# Altium integrated library TI Data Converters Analog to Digital Converter.IntLib: 2198 symbols (part 154 of 164)
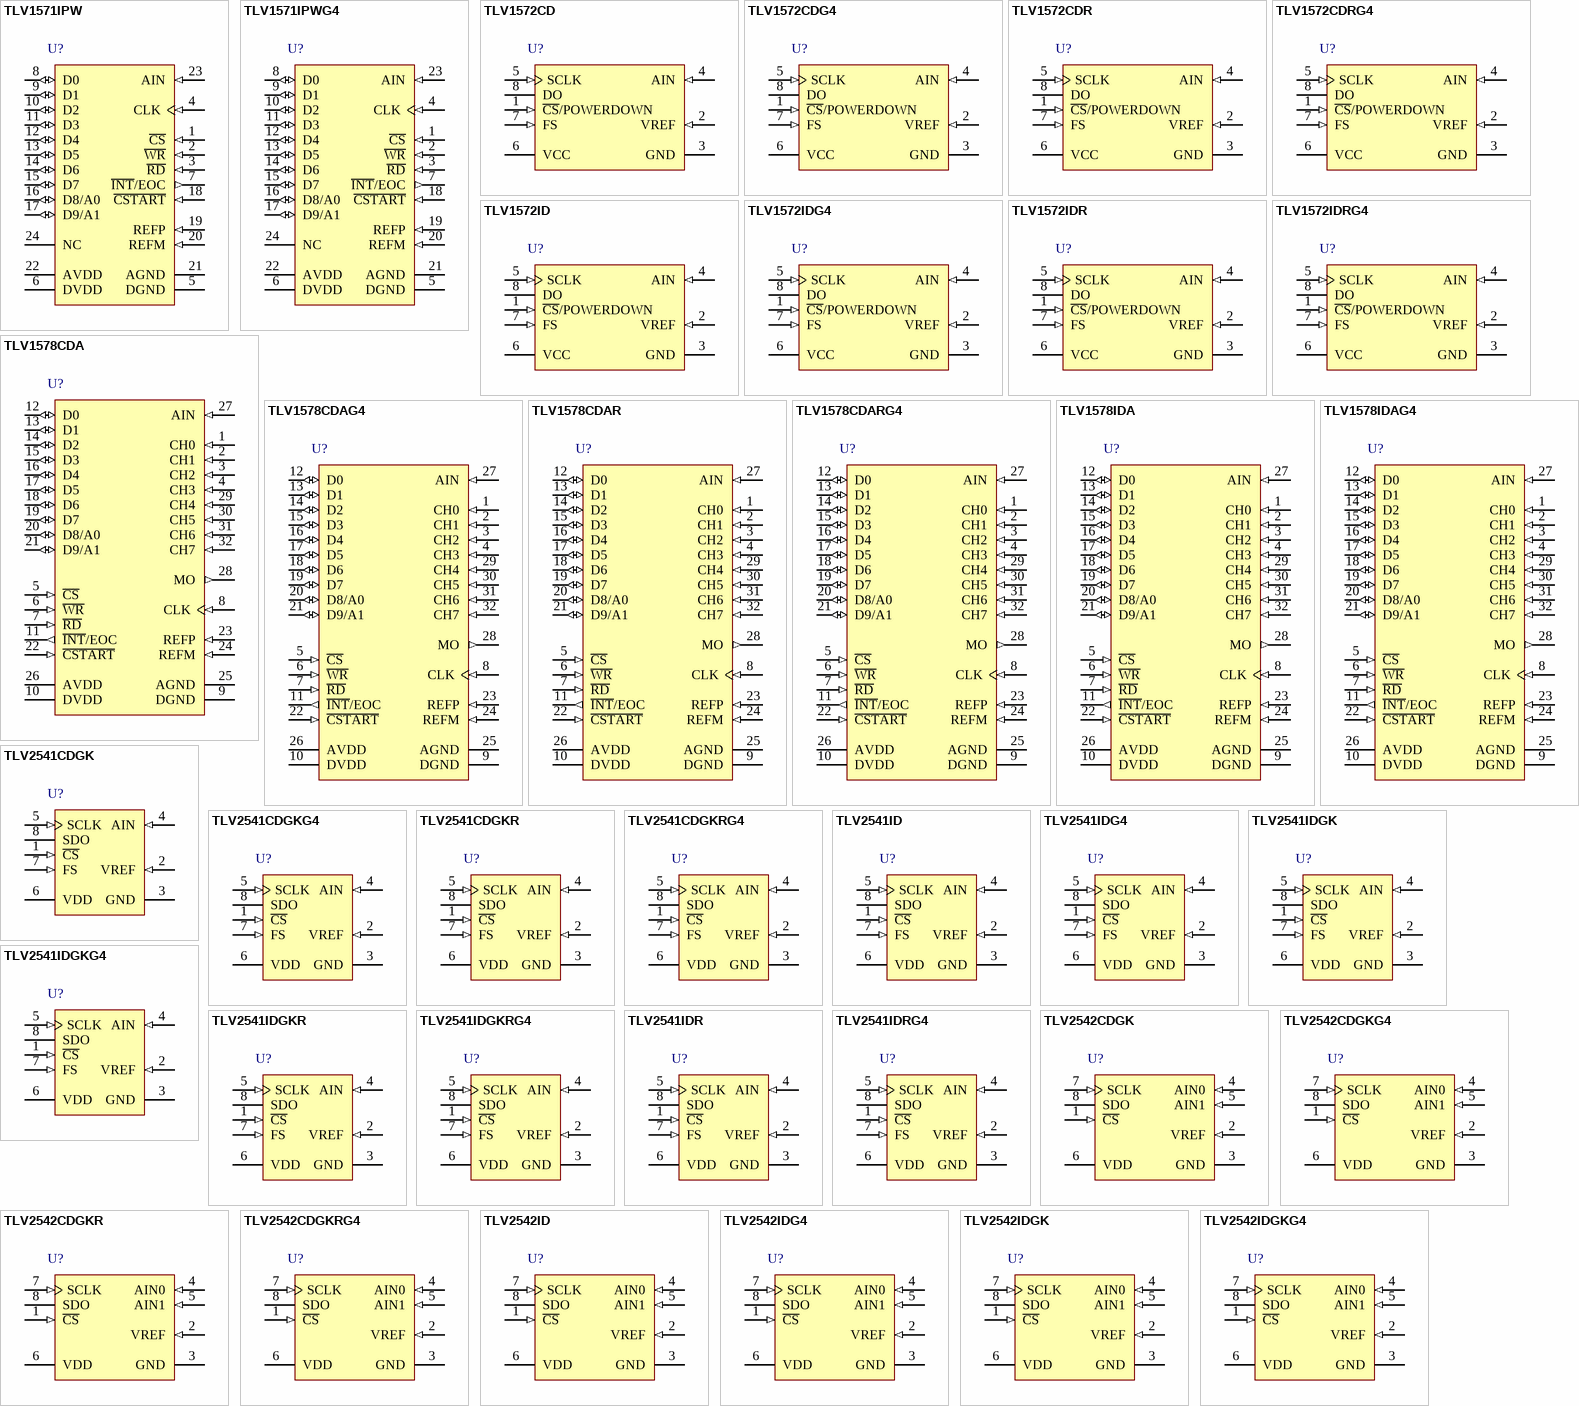
[diagram p279: symbols TLV1571IPW to TLV2542IDGKG4]

## TLV1578CDAG4
designator U?
10-Bit 1.25 MSPS ADC 8-Channel, DSP / SPI, Hardware Configurable, Low Power, 0 to 70 degC, 32-pin SOP (DA32), Green (RoHS & no Sb/Br); Manufacturer: Texas Instruments; PartNumber: TLV1578CDAG4; # Input Channels: 8; Analog Voltage AV/DD(Max)(V): 5.5; Analog Voltage AV/DD(Min)(V): 2.7; Architecture: SAR; ENOB(Bits): 9.3; INL(Max)(+/-LSB): 1; Interface: Parallel CMOS; Resolution(Bits): 10; Sample Rate (max)(SPS): 1.25M; SFDR(dB): 63; SINAD(dB): 60; SubFamily: Precision ADC (<=10MSPS); DatasheetVersion: SLAS170D; PackageVersion: 4040066/F, 01/2009; PackageReference: DA32; PackageDescription: 32-Pin Plastic Small Outline, Body 11 x 6.1 mm, Pitch 0.65 mm; Supplier 1: Digi-Key; Supplier Part Number 1: 296-25289-ND; Digital Supply(Max)(V): 5.5; Digital Supply(Min)(V): 2.7; Eco-Plan: Green (RoHS & no Sb/Br); SNR(dB): 60; Mounting Technology: Surface Mount; Code_JEDEC: MO-225; ComponentLink1Description: Manufacturer URL; ComponentLink1URL: http://www.ti.com/; ComponentLink2Description: Datasheet; ComponentLink2URL: http://www.ti.com/general/docs/lit/getliterature.tsp?genericPartNumber=TLV1578&fileType=pdf; ComponentLink3Description: Package Specification; ComponentLink3URL: http://www.ti.com/lit/ml/mtss002e/mtss002e.pdf
footprint TI-DA32_N (SOP, 32-Leads, Body 11x6.1mm, Pitch 0.65mm, IPC Medium Density)
footprint TI-DA32_L (SOP, 32-Leads, Body 11x6.1mm, Pitch 0.65mm, IPC High Density)
footprint TI-DA32_M (SOP, 32-Leads, Body 11x6.1mm, Pitch 0.65mm, IPC Low Density)
pins: 1 CH0 (in) "Analog input channels", 2 CH1 (in) "Analog input channels", 3 CH2 (in) "Analog input channels", 4 CH3 (in) "Analog input channels", 5 ~{CS} (in) "Chip select. A logic low on C\S\ enables the TLV1571/TLV1578", 6 ~{WR} (in) "Write data. A rising edge on the W\R\ latches in configuration data when C\S\ is low. When using software conversion start, a rising edge on W\R\ also initiates an internal sampling start pulse. When W\R\ is tied to ground, (See Datasheet)", 7 ~{RD} (in) "Read data. A falling edge on R\D\ enables a read operation on the data bus when C\S\ is low.", 8 CLK (in) "External clock input", 9 DGND (power) "Digital ground", 10 DVDD (power) "Digital supply voltage, 2.7 V to 5.5 V", 11 ~{INT}/EOC (out) "End-of-conversion/interrupt", 12 D0 (io) "Bidirectional 3-state data bus", 13 D1 (io) "Bidirectional 3-state data bus", 14 D2 (io) "Bidirectional 3-state data bus", 15 D3 (io) "Bidirectional 3-state data bus", 16 D4 (io) "Bidirectional 3-state data bus", 17 D5 (io) "Bidirectional 3-state data bus", 18 D6 (io) "Bidirectional 3-state data bus", 19 D7 (io) "Bidirectional 3-state data bus", 20 D8/A0 (io) "Bidirectional 3-state data bus. D8/A0 along with D9/A1 is used as address lines to access CR0 and CR1 for initialization", 21 D9/A1 (io) "Bidirectional 3-state data bus. D9/A1 along with D8/A0 is used as address lines to access CR0 and CR1 for initialization.", 22 ~{CSTART} (in) "Hardware sample and conversion start input. The falling edge of C\S\T\A\R\T\ starts sampling and the rising edge of C\S\T\A\R\T\ starts conversion", 23 REFP (in) "Upper reference voltage (nominally AVDD). The maximum input voltage range is determined by the difference between the voltage applied to REFP and REFM.", 24 REFM (in) "Lower reference voltage (nominally ground). REFM must be supplied or REFM pin must be grounded.", 25 AGND (power) "Analog ground", 26 AVDD (power) "Analog supply voltage, 2.7 V to 5.5 V", 27 AIN (in) "ADC analog input (used as single analog input channel for TLV1571)", 28 MO (out) "On-chip MUX analog output", 29 CH4 (in) "Analog input channels", 30 CH5 (in) "Analog input channels", 31 CH6 (in) "Analog input channels", 32 CH7 (in) "Analog input channels"

## TLV1578CDAR
designator U?
10-Bit 1.25 MSPS ADC 8-Channel, DSP / SPI, Hardware Configurable, Low Power, 0 to 70 degC, 32-pin SOP (DA32), Green (RoHS & no Sb/Br); Manufacturer: Texas Instruments; PartNumber: TLV1578CDAR; # Input Channels: 8; Analog Voltage AV/DD(Max)(V): 5.5; Analog Voltage AV/DD(Min)(V): 2.7; Architecture: SAR; ENOB(Bits): 9.3; INL(Max)(+/-LSB): 1; Interface: Parallel CMOS; Resolution(Bits): 10; Sample Rate (max)(SPS): 1.25M; SFDR(dB): 63; SINAD(dB): 60; SubFamily: Precision ADC (<=10MSPS); DatasheetVersion: SLAS170D; PackageVersion: 4040066/F, 01/2009; PackageReference: DA32; PackageDescription: 32-Pin Plastic Small Outline, Body 11 x 6.1 mm, Pitch 0.65 mm; Supplier 1: Digi-Key; Supplier Part Number 1: AFE0064IPBKR-ND; Digital Supply(Max)(V): 5.5; Digital Supply(Min)(V): 2.7; Eco-Plan: Green (RoHS & no Sb/Br); SNR(dB): 60; Mounting Technology: Surface Mount; Code_JEDEC: MO-225; ComponentLink1Description: Manufacturer URL; ComponentLink1URL: http://www.ti.com/; ComponentLink2Description: Datasheet; ComponentLink2URL: http://www.ti.com/general/docs/lit/getliterature.tsp?genericPartNumber=TLV1578&fileType=pdf; ComponentLink3Description: Package Specification; ComponentLink3URL: http://www.ti.com/lit/ml/mtss002e/mtss002e.pdf
footprint TI-DA32_N (SOP, 32-Leads, Body 11x6.1mm, Pitch 0.65mm, IPC Medium Density)
footprint TI-DA32_L (SOP, 32-Leads, Body 11x6.1mm, Pitch 0.65mm, IPC High Density)
footprint TI-DA32_M (SOP, 32-Leads, Body 11x6.1mm, Pitch 0.65mm, IPC Low Density)
pins: 1 CH0 (in) "Analog input channels", 2 CH1 (in) "Analog input channels", 3 CH2 (in) "Analog input channels", 4 CH3 (in) "Analog input channels", 5 ~{CS} (in) "Chip select. A logic low on C\S\ enables the TLV1571/TLV1578", 6 ~{WR} (in) "Write data. A rising edge on the W\R\ latches in configuration data when C\S\ is low. When using software conversion start, a rising edge on W\R\ also initiates an internal sampling start pulse. When W\R\ is tied to ground, (See Datasheet)", 7 ~{RD} (in) "Read data. A falling edge on R\D\ enables a read operation on the data bus when C\S\ is low.", 8 CLK (in) "External clock input", 9 DGND (power) "Digital ground", 10 DVDD (power) "Digital supply voltage, 2.7 V to 5.5 V", 11 ~{INT}/EOC (out) "End-of-conversion/interrupt", 12 D0 (io) "Bidirectional 3-state data bus", 13 D1 (io) "Bidirectional 3-state data bus", 14 D2 (io) "Bidirectional 3-state data bus", 15 D3 (io) "Bidirectional 3-state data bus", 16 D4 (io) "Bidirectional 3-state data bus", 17 D5 (io) "Bidirectional 3-state data bus", 18 D6 (io) "Bidirectional 3-state data bus", 19 D7 (io) "Bidirectional 3-state data bus", 20 D8/A0 (io) "Bidirectional 3-state data bus. D8/A0 along with D9/A1 is used as address lines to access CR0 and CR1 for initialization", 21 D9/A1 (io) "Bidirectional 3-state data bus. D9/A1 along with D8/A0 is used as address lines to access CR0 and CR1 for initialization.", 22 ~{CSTART} (in) "Hardware sample and conversion start input. The falling edge of C\S\T\A\R\T\ starts sampling and the rising edge of C\S\T\A\R\T\ starts conversion", 23 REFP (in) "Upper reference voltage (nominally AVDD). The maximum input voltage range is determined by the difference between the voltage applied to REFP and REFM.", 24 REFM (in) "Lower reference voltage (nominally ground). REFM must be supplied or REFM pin must be grounded.", 25 AGND (power) "Analog ground", 26 AVDD (power) "Analog supply voltage, 2.7 V to 5.5 V", 27 AIN (in) "ADC analog input (used as single analog input channel for TLV1571)", 28 MO (out) "On-chip MUX analog output", 29 CH4 (in) "Analog input channels", 30 CH5 (in) "Analog input channels", 31 CH6 (in) "Analog input channels", 32 CH7 (in) "Analog input channels"

## TLV1578CDARG4
designator U?
10-Bit 1.25 MSPS ADC 8-Channel, DSP / SPI, Hardware Configurable, Low Power, 0 to 70 degC, 32-pin SOP (DA32), Green (RoHS & no Sb/Br); Manufacturer: Texas Instruments; PartNumber: TLV1578CDARG4; # Input Channels: 8; Analog Voltage AV/DD(Max)(V): 5.5; Analog Voltage AV/DD(Min)(V): 2.7; Architecture: SAR; ENOB(Bits): 9.3; INL(Max)(+/-LSB): 1; Interface: Parallel CMOS; Resolution(Bits): 10; Sample Rate (max)(SPS): 1.25M; SFDR(dB): 63; SINAD(dB): 60; SubFamily: Precision ADC (<=10MSPS); DatasheetVersion: SLAS170D; PackageVersion: 4040066/F, 01/2009; PackageReference: DA32; PackageDescription: 32-Pin Plastic Small Outline, Body 11 x 6.1 mm, Pitch 0.65 mm; Supplier 1: Digi-Key; Supplier Part Number 1: ADS1015IDGSR-ND; Digital Supply(Max)(V): 5.5; Digital Supply(Min)(V): 2.7; Eco-Plan: Green (RoHS & no Sb/Br); SNR(dB): 60; Mounting Technology: Surface Mount; Code_JEDEC: MO-225; ComponentLink1Description: Manufacturer URL; ComponentLink1URL: http://www.ti.com/; ComponentLink2Description: Datasheet; ComponentLink2URL: http://www.ti.com/general/docs/lit/getliterature.tsp?genericPartNumber=TLV1578&fileType=pdf; ComponentLink3Description: Package Specification; ComponentLink3URL: http://www.ti.com/lit/ml/mtss002e/mtss002e.pdf
footprint TI-DA32_N (SOP, 32-Leads, Body 11x6.1mm, Pitch 0.65mm, IPC Medium Density)
footprint TI-DA32_L (SOP, 32-Leads, Body 11x6.1mm, Pitch 0.65mm, IPC High Density)
footprint TI-DA32_M (SOP, 32-Leads, Body 11x6.1mm, Pitch 0.65mm, IPC Low Density)
pins: 1 CH0 (in) "Analog input channels", 2 CH1 (in) "Analog input channels", 3 CH2 (in) "Analog input channels", 4 CH3 (in) "Analog input channels", 5 ~{CS} (in) "Chip select. A logic low on C\S\ enables the TLV1571/TLV1578", 6 ~{WR} (in) "Write data. A rising edge on the W\R\ latches in configuration data when C\S\ is low. When using software conversion start, a rising edge on W\R\ also initiates an internal sampling start pulse. When W\R\ is tied to ground, (See Datasheet)", 7 ~{RD} (in) "Read data. A falling edge on R\D\ enables a read operation on the data bus when C\S\ is low.", 8 CLK (in) "External clock input", 9 DGND (power) "Digital ground", 10 DVDD (power) "Digital supply voltage, 2.7 V to 5.5 V", 11 ~{INT}/EOC (out) "End-of-conversion/interrupt", 12 D0 (io) "Bidirectional 3-state data bus", 13 D1 (io) "Bidirectional 3-state data bus", 14 D2 (io) "Bidirectional 3-state data bus", 15 D3 (io) "Bidirectional 3-state data bus", 16 D4 (io) "Bidirectional 3-state data bus", 17 D5 (io) "Bidirectional 3-state data bus", 18 D6 (io) "Bidirectional 3-state data bus", 19 D7 (io) "Bidirectional 3-state data bus", 20 D8/A0 (io) "Bidirectional 3-state data bus. D8/A0 along with D9/A1 is used as address lines to access CR0 and CR1 for initialization", 21 D9/A1 (io) "Bidirectional 3-state data bus. D9/A1 along with D8/A0 is used as address lines to access CR0 and CR1 for initialization.", 22 ~{CSTART} (in) "Hardware sample and conversion start input. The falling edge of C\S\T\A\R\T\ starts sampling and the rising edge of C\S\T\A\R\T\ starts conversion", 23 REFP (in) "Upper reference voltage (nominally AVDD). The maximum input voltage range is determined by the difference between the voltage applied to REFP and REFM.", 24 REFM (in) "Lower reference voltage (nominally ground). REFM must be supplied or REFM pin must be grounded.", 25 AGND (power) "Analog ground", 26 AVDD (power) "Analog supply voltage, 2.7 V to 5.5 V", 27 AIN (in) "ADC analog input (used as single analog input channel for TLV1571)", 28 MO (out) "On-chip MUX analog output", 29 CH4 (in) "Analog input channels", 30 CH5 (in) "Analog input channels", 31 CH6 (in) "Analog input channels", 32 CH7 (in) "Analog input channels"

## TLV1578IDA
designator U?
10-Bit 1.25 MSPS ADC 8-Channel, DSP / SPI, Hardware Configurable, Low Power, -40 to 85 degC, 32-pin SOP (DA32), Green (RoHS & no Sb/Br); Manufacturer: Texas Instruments; PartNumber: TLV1578IDA; # Input Channels: 8; Analog Voltage AV/DD(Max)(V): 5.5; Analog Voltage AV/DD(Min)(V): 2.7; Architecture: SAR; ENOB(Bits): 9.3; INL(Max)(+/-LSB): 1; Interface: Parallel CMOS; Resolution(Bits): 10; Sample Rate (max)(SPS): 1.25M; SFDR(dB): 63; SINAD(dB): 60; SubFamily: Precision ADC (<=10MSPS); DatasheetVersion: SLAS170D; PackageVersion: 4040066/F, 01/2009; PackageReference: DA32; PackageDescription: 32-Pin Plastic Small Outline, Body 11 x 6.1 mm, Pitch 0.65 mm; Supplier 1: Digi-Key; Supplier Part Number 1: 296-25227-2-ND; Digital Supply(Max)(V): 5.5; Digital Supply(Min)(V): 2.7; Eco-Plan: Green (RoHS & no Sb/Br); SNR(dB): 60; Mounting Technology: Surface Mount; Code_JEDEC: MO-225; ComponentLink1Description: Manufacturer URL; ComponentLink1URL: http://www.ti.com/; ComponentLink2Description: Datasheet; ComponentLink2URL: http://www.ti.com/general/docs/lit/getliterature.tsp?genericPartNumber=TLV1578&fileType=pdf; ComponentLink3Description: Package Specification; ComponentLink3URL: http://www.ti.com/lit/ml/mtss002e/mtss002e.pdf
footprint TI-DA32_N (SOP, 32-Leads, Body 11x6.1mm, Pitch 0.65mm, IPC Medium Density)
footprint TI-DA32_L (SOP, 32-Leads, Body 11x6.1mm, Pitch 0.65mm, IPC High Density)
footprint TI-DA32_M (SOP, 32-Leads, Body 11x6.1mm, Pitch 0.65mm, IPC Low Density)
pins: 1 CH0 (in) "Analog input channels", 2 CH1 (in) "Analog input channels", 3 CH2 (in) "Analog input channels", 4 CH3 (in) "Analog input channels", 5 ~{CS} (in) "Chip select. A logic low on C\S\ enables the TLV1571/TLV1578", 6 ~{WR} (in) "Write data. A rising edge on the W\R\ latches in configuration data when C\S\ is low. When using software conversion start, a rising edge on W\R\ also initiates an internal sampling start pulse. When W\R\ is tied to ground, (See Datasheet)", 7 ~{RD} (in) "Read data. A falling edge on R\D\ enables a read operation on the data bus when C\S\ is low.", 8 CLK (in) "External clock input", 9 DGND (power) "Digital ground", 10 DVDD (power) "Digital supply voltage, 2.7 V to 5.5 V", 11 ~{INT}/EOC (out) "End-of-conversion/interrupt", 12 D0 (io) "Bidirectional 3-state data bus", 13 D1 (io) "Bidirectional 3-state data bus", 14 D2 (io) "Bidirectional 3-state data bus", 15 D3 (io) "Bidirectional 3-state data bus", 16 D4 (io) "Bidirectional 3-state data bus", 17 D5 (io) "Bidirectional 3-state data bus", 18 D6 (io) "Bidirectional 3-state data bus", 19 D7 (io) "Bidirectional 3-state data bus", 20 D8/A0 (io) "Bidirectional 3-state data bus. D8/A0 along with D9/A1 is used as address lines to access CR0 and CR1 for initialization", 21 D9/A1 (io) "Bidirectional 3-state data bus. D9/A1 along with D8/A0 is used as address lines to access CR0 and CR1 for initialization.", 22 ~{CSTART} (in) "Hardware sample and conversion start input. The falling edge of C\S\T\A\R\T\ starts sampling and the rising edge of C\S\T\A\R\T\ starts conversion", 23 REFP (in) "Upper reference voltage (nominally AVDD). The maximum input voltage range is determined by the difference between the voltage applied to REFP and REFM.", 24 REFM (in) "Lower reference voltage (nominally ground). REFM must be supplied or REFM pin must be grounded.", 25 AGND (power) "Analog ground", 26 AVDD (power) "Analog supply voltage, 2.7 V to 5.5 V", 27 AIN (in) "ADC analog input (used as single analog input channel for TLV1571)", 28 MO (out) "On-chip MUX analog output", 29 CH4 (in) "Analog input channels", 30 CH5 (in) "Analog input channels", 31 CH6 (in) "Analog input channels", 32 CH7 (in) "Analog input channels"

## TLV1578IDAG4
designator U?
10-Bit 1.25 MSPS ADC 8-Channel, DSP / SPI, Hardware Configurable, Low Power, -40 to 85 degC, 32-pin SOP (DA32), Green (RoHS & no Sb/Br); Manufacturer: Texas Instruments; PartNumber: TLV1578IDAG4; # Input Channels: 8; Analog Voltage AV/DD(Max)(V): 5.5; Analog Voltage AV/DD(Min)(V): 2.7; Architecture: SAR; ENOB(Bits): 9.3; INL(Max)(+/-LSB): 1; Interface: Parallel CMOS; Resolution(Bits): 10; Sample Rate (max)(SPS): 1.25M; SFDR(dB): 63; SINAD(dB): 60; SubFamily: Precision ADC (<=10MSPS); DatasheetVersion: SLAS170D; PackageVersion: 4040066/F, 01/2009; PackageReference: DA32; PackageDescription: 32-Pin Plastic Small Outline, Body 11 x 6.1 mm, Pitch 0.65 mm; Supplier 1: Digi-Key; Supplier Part Number 1: ADS1015IRUGR-ND; Digital Supply(Max)(V): 5.5; Digital Supply(Min)(V): 2.7; Eco-Plan: Green (RoHS & no Sb/Br); SNR(dB): 60; Mounting Technology: Surface Mount; Code_JEDEC: MO-225; ComponentLink1Description: Manufacturer URL; ComponentLink1URL: http://www.ti.com/; ComponentLink2Description: Datasheet; ComponentLink2URL: http://www.ti.com/general/docs/lit/getliterature.tsp?genericPartNumber=TLV1578&fileType=pdf; ComponentLink3Description: Package Specification; ComponentLink3URL: http://www.ti.com/lit/ml/mtss002e/mtss002e.pdf
footprint TI-DA32_N (SOP, 32-Leads, Body 11x6.1mm, Pitch 0.65mm, IPC Medium Density)
footprint TI-DA32_L (SOP, 32-Leads, Body 11x6.1mm, Pitch 0.65mm, IPC High Density)
footprint TI-DA32_M (SOP, 32-Leads, Body 11x6.1mm, Pitch 0.65mm, IPC Low Density)
pins: 1 CH0 (in) "Analog input channels", 2 CH1 (in) "Analog input channels", 3 CH2 (in) "Analog input channels", 4 CH3 (in) "Analog input channels", 5 ~{CS} (in) "Chip select. A logic low on C\S\ enables the TLV1571/TLV1578", 6 ~{WR} (in) "Write data. A rising edge on the W\R\ latches in configuration data when C\S\ is low. When using software conversion start, a rising edge on W\R\ also initiates an internal sampling start pulse. When W\R\ is tied to ground, (See Datasheet)", 7 ~{RD} (in) "Read data. A falling edge on R\D\ enables a read operation on the data bus when C\S\ is low.", 8 CLK (in) "External clock input", 9 DGND (power) "Digital ground", 10 DVDD (power) "Digital supply voltage, 2.7 V to 5.5 V", 11 ~{INT}/EOC (out) "End-of-conversion/interrupt", 12 D0 (io) "Bidirectional 3-state data bus", 13 D1 (io) "Bidirectional 3-state data bus", 14 D2 (io) "Bidirectional 3-state data bus", 15 D3 (io) "Bidirectional 3-state data bus", 16 D4 (io) "Bidirectional 3-state data bus", 17 D5 (io) "Bidirectional 3-state data bus", 18 D6 (io) "Bidirectional 3-state data bus", 19 D7 (io) "Bidirectional 3-state data bus", 20 D8/A0 (io) "Bidirectional 3-state data bus. D8/A0 along with D9/A1 is used as address lines to access CR0 and CR1 for initialization", 21 D9/A1 (io) "Bidirectional 3-state data bus. D9/A1 along with D8/A0 is used as address lines to access CR0 and CR1 for initialization.", 22 ~{CSTART} (in) "Hardware sample and conversion start input. The falling edge of C\S\T\A\R\T\ starts sampling and the rising edge of C\S\T\A\R\T\ starts conversion", 23 REFP (in) "Upper reference voltage (nominally AVDD). The maximum input voltage range is determined by the difference between the voltage applied to REFP and REFM.", 24 REFM (in) "Lower reference voltage (nominally ground). REFM must be supplied or REFM pin must be grounded.", 25 AGND (power) "Analog ground", 26 AVDD (power) "Analog supply voltage, 2.7 V to 5.5 V", 27 AIN (in) "ADC analog input (used as single analog input channel for TLV1571)", 28 MO (out) "On-chip MUX analog output", 29 CH4 (in) "Analog input channels", 30 CH5 (in) "Analog input channels", 31 CH6 (in) "Analog input channels", 32 CH7 (in) "Analog input channels"

## TLV2541CDGK
designator U?
12-Bit, 200 kSPS ADC, Serial Out, TMS320 Compatible (up to 10 MHz), Single Channel, 0 to 70 degC, 8-pin SOP (DGK8), Green (RoHS & no Sb/Br); Manufacturer: Texas Instruments; PartNumber: TLV2541CDGK; # Input Channels: 1; Analog Voltage AV/DD(Max)(V): 5.5; Analog Voltage AV/DD(Min)(V): 2.7; Architecture: SAR; ENOB(Bits): 11.8; Interface: Serial SPI; Resolution(Bits): 12; Sample Rate (max)(SPS): 200k; SFDR(dB): 84; SINAD(dB): 72; SubFamily: Precision ADC (<=10MSPS); DatasheetVersion: SLAS245E; PackageVersion: 4073329/E, 05/2006; PackageReference: DGK8; PackageDescription: 8-Pin Thin Small Outline, Body 3 x 3 mm, Pitch 0.65 mm; Supplier 1: Digi-Key; Supplier Part Number 1: 296-25172-2-ND; Digital Supply(Max)(V): 5.5; Digital Supply(Min)(V): 2.7; Eco-Plan: Green (RoHS & no Sb/Br); INL(Max)(+/-LSB): 1; Mounting Technology: Surface Mount; Code_JEDEC: MO-187; ComponentLink1Description: Manufacturer URL; ComponentLink1URL: http://www.ti.com/; ComponentLink2Description: Datasheet; ComponentLink2URL: http://www.ti.com/general/docs/lit/getliterature.tsp?genericPartNumber=TLV2541&fileType=pdf; ComponentLink3Description: Package Specification; ComponentLink3URL: http://www.ti.com/litv/pdf/mpds028d
footprint TI-DGK8_N (SOP, 8-Leads, Body 3x3mm, Pitch 0.65mm, IPC Medium Density)
footprint TI-DGK8_L (SOP, 8-Leads, Body 3x3mm, Pitch 0.65mm, IPC High Density)
footprint TI-DGK8_M (SOP, 8-Leads, Body 3x3mm, Pitch 0.65mm, IPC Low Density)
pins: 1 ~{CS} (in) "Chip select. A high-to-low transition on the C\S\ input removes SDO from 3-state within a maximum setup time. C\S\ can be used as the FS pin when a dedicated DSP serial port is used.", 2 VREF (in) "External reference input", 3 GND (power) "Ground return for the internal circuitry. Unless otherwise noted, all voltage measurements are with respect to GND.", 4 AIN (in) "Analog input channel", 5 SCLK (in) "Output serial clock. This terminal receives the serial SCLK from the host processor.", 6 VDD (power) "Positive supply voltage", 7 FS (in) "DSP frame sync input. Indication of the start of a serial data frame. Tie this terminal to VDD if not used.", 8 SDO (hiz) "The 3-state serial output for the A/D conversion result. SDO is kept in the high-impedance state until C\S\ falling edge or FS rising edge, whichever occurs first. The output format is MSB first. When FS is not used (FS = 1 (See Datasheet)"

## TLV2541CDGKG4
designator U?
12-Bit, 200 kSPS ADC, Serial Out, TMS320 Compatible (up to 10 MHz), Single Channel, 0 to 70 degC, 8-pin SOP (DGK8), Green (RoHS & no Sb/Br); Manufacturer: Texas Instruments; PartNumber: TLV2541CDGKG4; # Input Channels: 1; Analog Voltage AV/DD(Max)(V): 5.5; Analog Voltage AV/DD(Min)(V): 2.7; Architecture: SAR; ENOB(Bits): 11.8; Interface: Serial SPI; Resolution(Bits): 12; Sample Rate (max)(SPS): 200k; SFDR(dB): 84; SINAD(dB): 72; SubFamily: Precision ADC (<=10MSPS); DatasheetVersion: SLAS245E; PackageVersion: 4073329/E, 05/2006; PackageReference: DGK8; PackageDescription: 8-Pin Thin Small Outline, Body 3 x 3 mm, Pitch 0.65 mm; Supplier 1: Digi-Key; Supplier Part Number 1: ADS1014IDGSR-ND; Digital Supply(Max)(V): 5.5; Digital Supply(Min)(V): 2.7; Eco-Plan: Green (RoHS & no Sb/Br); INL(Max)(+/-LSB): 1; Mounting Technology: Surface Mount; Code_JEDEC: MO-187; ComponentLink1Description: Manufacturer URL; ComponentLink1URL: http://www.ti.com/; ComponentLink2Description: Datasheet; ComponentLink2URL: http://www.ti.com/general/docs/lit/getliterature.tsp?genericPartNumber=TLV2541&fileType=pdf; ComponentLink3Description: Package Specification; ComponentLink3URL: http://www.ti.com/litv/pdf/mpds028d
footprint TI-DGK8_N (SOP, 8-Leads, Body 3x3mm, Pitch 0.65mm, IPC Medium Density)
footprint TI-DGK8_L (SOP, 8-Leads, Body 3x3mm, Pitch 0.65mm, IPC High Density)
footprint TI-DGK8_M (SOP, 8-Leads, Body 3x3mm, Pitch 0.65mm, IPC Low Density)
pins: 1 ~{CS} (in) "Chip select. A high-to-low transition on the C\S\ input removes SDO from 3-state within a maximum setup time. C\S\ can be used as the FS pin when a dedicated DSP serial port is used.", 2 VREF (in) "External reference input", 3 GND (power) "Ground return for the internal circuitry. Unless otherwise noted, all voltage measurements are with respect to GND.", 4 AIN (in) "Analog input channel", 5 SCLK (in) "Output serial clock. This terminal receives the serial SCLK from the host processor.", 6 VDD (power) "Positive supply voltage", 7 FS (in) "DSP frame sync input. Indication of the start of a serial data frame. Tie this terminal to VDD if not used.", 8 SDO (hiz) "The 3-state serial output for the A/D conversion result. SDO is kept in the high-impedance state until C\S\ falling edge or FS rising edge, whichever occurs first. The output format is MSB first. When FS is not used (FS = 1 (See Datasheet)"

## TLV2541CDGKR
designator U?
12-Bit, 200 kSPS ADC, Serial Out, TMS320 Compatible (up to 10 MHz), Single Channel, 0 to 70 degC, 8-pin SOP (DGK8), Green (RoHS & no Sb/Br); Manufacturer: Texas Instruments; PartNumber: TLV2541CDGKR; # Input Channels: 1; Analog Voltage AV/DD(Max)(V): 5.5; Analog Voltage AV/DD(Min)(V): 2.7; Architecture: SAR; ENOB(Bits): 11.8; Interface: Serial SPI; Resolution(Bits): 12; Sample Rate (max)(SPS): 200k; SFDR(dB): 84; SINAD(dB): 72; SubFamily: Precision ADC (<=10MSPS); DatasheetVersion: SLAS245E; PackageVersion: 4073329/E, 05/2006; PackageReference: DGK8; PackageDescription: 8-Pin Thin Small Outline, Body 3 x 3 mm, Pitch 0.65 mm; Supplier 1: Digi-Key; Supplier Part Number 1: 296-25226-2-ND; Digital Supply(Max)(V): 5.5; Digital Supply(Min)(V): 2.7; Eco-Plan: Green (RoHS & no Sb/Br); INL(Max)(+/-LSB): 1; Mounting Technology: Surface Mount; Code_JEDEC: MO-187; ComponentLink1Description: Manufacturer URL; ComponentLink1URL: http://www.ti.com/; ComponentLink2Description: Datasheet; ComponentLink2URL: http://www.ti.com/general/docs/lit/getliterature.tsp?genericPartNumber=TLV2541&fileType=pdf; ComponentLink3Description: Package Specification; ComponentLink3URL: http://www.ti.com/litv/pdf/mpds028d
footprint TI-DGK8_N (SOP, 8-Leads, Body 3x3mm, Pitch 0.65mm, IPC Medium Density)
footprint TI-DGK8_L (SOP, 8-Leads, Body 3x3mm, Pitch 0.65mm, IPC High Density)
footprint TI-DGK8_M (SOP, 8-Leads, Body 3x3mm, Pitch 0.65mm, IPC Low Density)
pins: 1 ~{CS} (in) "Chip select. A high-to-low transition on the C\S\ input removes SDO from 3-state within a maximum setup time. C\S\ can be used as the FS pin when a dedicated DSP serial port is used.", 2 VREF (in) "External reference input", 3 GND (power) "Ground return for the internal circuitry. Unless otherwise noted, all voltage measurements are with respect to GND.", 4 AIN (in) "Analog input channel", 5 SCLK (in) "Output serial clock. This terminal receives the serial SCLK from the host processor.", 6 VDD (power) "Positive supply voltage", 7 FS (in) "DSP frame sync input. Indication of the start of a serial data frame. Tie this terminal to VDD if not used.", 8 SDO (hiz) "The 3-state serial output for the A/D conversion result. SDO is kept in the high-impedance state until C\S\ falling edge or FS rising edge, whichever occurs first. The output format is MSB first. When FS is not used (FS = 1 (See Datasheet)"

## TLV2541CDGKRG4
designator U?
12-Bit, 200 kSPS ADC, Serial Out, TMS320 Compatible (up to 10 MHz), Single Channel, 0 to 70 degC, 8-pin SOP (DGK8), Green (RoHS & no Sb/Br); Manufacturer: Texas Instruments; PartNumber: TLV2541CDGKRG4; # Input Channels: 1; Analog Voltage AV/DD(Max)(V): 5.5; Analog Voltage AV/DD(Min)(V): 2.7; Architecture: SAR; ENOB(Bits): 11.8; Interface: Serial SPI; Resolution(Bits): 12; Sample Rate (max)(SPS): 200k; SFDR(dB): 84; SINAD(dB): 72; SubFamily: Precision ADC (<=10MSPS); DatasheetVersion: SLAS245E; PackageVersion: 4073329/E, 05/2006; PackageReference: DGK8; PackageDescription: 8-Pin Thin Small Outline, Body 3 x 3 mm, Pitch 0.65 mm; Supplier 1: Digi-Key; Supplier Part Number 1: ADS1014IRUGR-ND; Digital Supply(Max)(V): 5.5; Digital Supply(Min)(V): 2.7; Eco-Plan: Green (RoHS & no Sb/Br); INL(Max)(+/-LSB): 1; Mounting Technology: Surface Mount; Code_JEDEC: MO-187; ComponentLink1Description: Manufacturer URL; ComponentLink1URL: http://www.ti.com/; ComponentLink2Description: Datasheet; ComponentLink2URL: http://www.ti.com/general/docs/lit/getliterature.tsp?genericPartNumber=TLV2541&fileType=pdf; ComponentLink3Description: Package Specification; ComponentLink3URL: http://www.ti.com/litv/pdf/mpds028d
footprint TI-DGK8_N (SOP, 8-Leads, Body 3x3mm, Pitch 0.65mm, IPC Medium Density)
footprint TI-DGK8_L (SOP, 8-Leads, Body 3x3mm, Pitch 0.65mm, IPC High Density)
footprint TI-DGK8_M (SOP, 8-Leads, Body 3x3mm, Pitch 0.65mm, IPC Low Density)
pins: 1 ~{CS} (in) "Chip select. A high-to-low transition on the C\S\ input removes SDO from 3-state within a maximum setup time. C\S\ can be used as the FS pin when a dedicated DSP serial port is used.", 2 VREF (in) "External reference input", 3 GND (power) "Ground return for the internal circuitry. Unless otherwise noted, all voltage measurements are with respect to GND.", 4 AIN (in) "Analog input channel", 5 SCLK (in) "Output serial clock. This terminal receives the serial SCLK from the host processor.", 6 VDD (power) "Positive supply voltage", 7 FS (in) "DSP frame sync input. Indication of the start of a serial data frame. Tie this terminal to VDD if not used.", 8 SDO (hiz) "The 3-state serial output for the A/D conversion result. SDO is kept in the high-impedance state until C\S\ falling edge or FS rising edge, whichever occurs first. The output format is MSB first. When FS is not used (FS = 1 (See Datasheet)"

## TLV2541ID
designator U?
12-Bit, 200 kSPS ADC, Serial Out, TMS320 Compatible (up to 10 MHz), Single Channel, -40 to 85 degC, 8-pin SOIC (D8), Green (RoHS & no Sb/Br); Manufacturer: Texas Instruments; PartNumber: TLV2541ID; # Input Channels: 1; Analog Voltage AV/DD(Max)(V): 5.5; Analog Voltage AV/DD(Min)(V): 2.7; Architecture: SAR; ENOB(Bits): 11.8; Interface: Serial SPI; Resolution(Bits): 12; Sample Rate (max)(SPS): 200K; SFDR(dB): 84; SINAD(dB): 72; SubFamily: Precision ADC (<=10MSPS); DatasheetVersion: SLAS245E; PackageVersion: 4040047-3/M, 06/2011; PackageReference: D8; PackageDescription: 8-Pin Plastic Small Outline, Body 4.9 x 3.9 mm, Pitch 1.27 mm; Supplier 1: Digi-Key; Supplier Part Number 1: 296-25171-2-ND; Digital Supply(Max)(V): 5.5; Digital Supply(Min)(V): 2.7; Eco-Plan: Green (RoHS & no Sb/Br); INL(Max)(+/-LSB): 1; Mounting Technology: Surface Mount; Code_JEDEC: MS-012; ComponentLink1Description: Manufacturer URL; ComponentLink1URL: http://www.ti.com/; ComponentLink2Description: Datasheet; ComponentLink2URL: http://www.ti.com/general/docs/lit/getliterature.tsp?genericPartNumber=TLV2541&fileType=pdf; ComponentLink3Description: Package Specification; ComponentLink3URL: http://www.ti.com/litv/pdf/msoi002j
footprint TI-D8_N (SOIC, 8-Leads, Body 4.9x3.9mm, Pitch 1.27mm, IPC Medium Density)
footprint TI-D8_L (SOIC, 8-Leads, Body 4.9x3.9mm, Pitch 1.27mm, IPC High Density)
footprint TI-D8_M (SOIC, 8-Leads, Body 4.9x3.9mm, Pitch 1.27mm, IPC Low Density)
pins: 1 ~{CS} (in) "Chip select. A high-to-low transition on the C\S\ input removes SDO from 3-state within a maximum setup time. C\S\ can be used as the FS pin when a dedicated DSP serial port is used.", 2 VREF (in) "External reference input", 3 GND (power) "Ground return for the internal circuitry. Unless otherwise noted, all voltage measurements are with respect to GND.", 4 AIN (in) "Analog input channel", 5 SCLK (in) "Output serial clock. This terminal receives the serial SCLK from the host processor.", 6 VDD (power) "Positive supply voltage", 7 FS (in) "DSP frame sync input. Indication of the start of a serial data frame. Tie this terminal to VDD if not used.", 8 SDO (hiz) "The 3-state serial output for the A/D conversion result. SDO is kept in the high-impedance state until C\S\ falling edge or FS rising edge, whichever occurs first. The output format is MSB first. When FS is not used (FS = 1 (See Datasheet)"

## TLV2541IDG4
designator U?
12-Bit, 200 kSPS ADC, Serial Out, TMS320 Compatible (up to 10 MHz), Single Channel, -40 to 85 degC, 8-pin SOIC (D8), Green (RoHS & no Sb/Br); Manufacturer: Texas Instruments; PartNumber: TLV2541IDG4; # Input Channels: 1; Analog Voltage AV/DD(Max)(V): 5.5; Analog Voltage AV/DD(Min)(V): 2.7; Architecture: SAR; ENOB(Bits): 11.8; Interface: Serial SPI; Resolution(Bits): 12; Sample Rate (max)(SPS): 200K; SFDR(dB): 84; SINAD(dB): 72; SubFamily: Precision ADC (<=10MSPS); DatasheetVersion: SLAS245E; PackageVersion: 4040047-3/M, 06/2011; PackageReference: D8; PackageDescription: 8-Pin Plastic Small Outline, Body 4.9 x 3.9 mm, Pitch 1.27 mm; Supplier 1: Digi-Key; Supplier Part Number 1: ADS1013IDGSR-ND; Digital Supply(Max)(V): 5.5; Digital Supply(Min)(V): 2.7; Eco-Plan: Green (RoHS & no Sb/Br); INL(Max)(+/-LSB): 1; Mounting Technology: Surface Mount; Code_JEDEC: MS-012; ComponentLink1Description: Manufacturer URL; ComponentLink1URL: http://www.ti.com/; ComponentLink2Description: Datasheet; ComponentLink2URL: http://www.ti.com/general/docs/lit/getliterature.tsp?genericPartNumber=TLV2541&fileType=pdf; ComponentLink3Description: Package Specification; ComponentLink3URL: http://www.ti.com/litv/pdf/msoi002j
footprint TI-D8_N (SOIC, 8-Leads, Body 4.9x3.9mm, Pitch 1.27mm, IPC Medium Density)
footprint TI-D8_L (SOIC, 8-Leads, Body 4.9x3.9mm, Pitch 1.27mm, IPC High Density)
footprint TI-D8_M (SOIC, 8-Leads, Body 4.9x3.9mm, Pitch 1.27mm, IPC Low Density)
pins: 1 ~{CS} (in) "Chip select. A high-to-low transition on the C\S\ input removes SDO from 3-state within a maximum setup time. C\S\ can be used as the FS pin when a dedicated DSP serial port is used.", 2 VREF (in) "External reference input", 3 GND (power) "Ground return for the internal circuitry. Unless otherwise noted, all voltage measurements are with respect to GND.", 4 AIN (in) "Analog input channel", 5 SCLK (in) "Output serial clock. This terminal receives the serial SCLK from the host processor.", 6 VDD (power) "Positive supply voltage", 7 FS (in) "DSP frame sync input. Indication of the start of a serial data frame. Tie this terminal to VDD if not used.", 8 SDO (hiz) "The 3-state serial output for the A/D conversion result. SDO is kept in the high-impedance state until C\S\ falling edge or FS rising edge, whichever occurs first. The output format is MSB first. When FS is not used (FS = 1 (See Datasheet)"

## TLV2541IDGK
designator U?
12-Bit, 200 kSPS ADC, Serial Out, TMS320 Compatible (up to 10 MHz), Single Channel, -40 to 85 degC, 8-pin SOP (DGK8), Green (RoHS & no Sb/Br); Manufacturer: Texas Instruments; PartNumber: TLV2541IDGK; # Input Channels: 1; Analog Voltage AV/DD(Max)(V): 5.5; Analog Voltage AV/DD(Min)(V): 2.7; Architecture: SAR; ENOB(Bits): 11.8; Interface: Serial SPI; Resolution(Bits): 12; Sample Rate (max)(SPS): 200k; SFDR(dB): 84; SINAD(dB): 72; SubFamily: Precision ADC (<=10MSPS); DatasheetVersion: SLAS245E; PackageVersion: 4073329/E, 05/2006; PackageReference: DGK8; PackageDescription: 8-Pin Thin Small Outline, Body 3 x 3 mm, Pitch 0.65 mm; Supplier 1: Digi-Key; Supplier Part Number 1: 296-25225-2-ND; Digital Supply(Max)(V): 5.5; Digital Supply(Min)(V): 2.7; Eco-Plan: Green (RoHS & no Sb/Br); INL(Max)(+/-LSB): 1; Mounting Technology: Surface Mount; Code_JEDEC: MO-187; ComponentLink1Description: Manufacturer URL; ComponentLink1URL: http://www.ti.com/; ComponentLink2Description: Datasheet; ComponentLink2URL: http://www.ti.com/general/docs/lit/getliterature.tsp?genericPartNumber=TLV2541&fileType=pdf; ComponentLink3Description: Package Specification; ComponentLink3URL: http://www.ti.com/litv/pdf/mpds028d
footprint TI-DGK8_N (SOP, 8-Leads, Body 3x3mm, Pitch 0.65mm, IPC Medium Density)
footprint TI-DGK8_L (SOP, 8-Leads, Body 3x3mm, Pitch 0.65mm, IPC High Density)
footprint TI-DGK8_M (SOP, 8-Leads, Body 3x3mm, Pitch 0.65mm, IPC Low Density)
pins: 1 ~{CS} (in) "Chip select. A high-to-low transition on the C\S\ input removes SDO from 3-state within a maximum setup time. C\S\ can be used as the FS pin when a dedicated DSP serial port is used.", 2 VREF (in) "External reference input", 3 GND (power) "Ground return for the internal circuitry. Unless otherwise noted, all voltage measurements are with respect to GND.", 4 AIN (in) "Analog input channel", 5 SCLK (in) "Output serial clock. This terminal receives the serial SCLK from the host processor.", 6 VDD (power) "Positive supply voltage", 7 FS (in) "DSP frame sync input. Indication of the start of a serial data frame. Tie this terminal to VDD if not used.", 8 SDO (hiz) "The 3-state serial output for the A/D conversion result. SDO is kept in the high-impedance state until C\S\ falling edge or FS rising edge, whichever occurs first. The output format is MSB first. When FS is not used (FS = 1 (See Datasheet)"

## TLV2541IDGKG4
designator U?
12-Bit, 200 kSPS ADC, Serial Out, TMS320 Compatible (up to 10 MHz), Single Channel, -40 to 85 degC, 8-pin SOP (DGK8), Green (RoHS & no Sb/Br); Manufacturer: Texas Instruments; PartNumber: TLV2541IDGKG4; # Input Channels: 1; Analog Voltage AV/DD(Max)(V): 5.5; Analog Voltage AV/DD(Min)(V): 2.7; Architecture: SAR; ENOB(Bits): 11.8; Interface: Serial SPI; Resolution(Bits): 12; Sample Rate (max)(SPS): 200k; SFDR(dB): 84; SINAD(dB): 72; SubFamily: Precision ADC (<=10MSPS); DatasheetVersion: SLAS245E; PackageVersion: 4073329/E, 05/2006; PackageReference: DGK8; PackageDescription: 8-Pin Thin Small Outline, Body 3 x 3 mm, Pitch 0.65 mm; Supplier 1: Digi-Key; Supplier Part Number 1: ADS1013IRUGR-ND; Digital Supply(Max)(V): 5.5; Digital Supply(Min)(V): 2.7; Eco-Plan: Green (RoHS & no Sb/Br); INL(Max)(+/-LSB): 1; Mounting Technology: Surface Mount; Code_JEDEC: MO-187; ComponentLink1Description: Manufacturer URL; ComponentLink1URL: http://www.ti.com/; ComponentLink2Description: Datasheet; ComponentLink2URL: http://www.ti.com/general/docs/lit/getliterature.tsp?genericPartNumber=TLV2541&fileType=pdf; ComponentLink3Description: Package Specification; ComponentLink3URL: http://www.ti.com/litv/pdf/mpds028d
footprint TI-DGK8_N (SOP, 8-Leads, Body 3x3mm, Pitch 0.65mm, IPC Medium Density)
footprint TI-DGK8_L (SOP, 8-Leads, Body 3x3mm, Pitch 0.65mm, IPC High Density)
footprint TI-DGK8_M (SOP, 8-Leads, Body 3x3mm, Pitch 0.65mm, IPC Low Density)
pins: 1 ~{CS} (in) "Chip select. A high-to-low transition on the C\S\ input removes SDO from 3-state within a maximum setup time. C\S\ can be used as the FS pin when a dedicated DSP serial port is used.", 2 VREF (in) "External reference input", 3 GND (power) "Ground return for the internal circuitry. Unless otherwise noted, all voltage measurements are with respect to GND.", 4 AIN (in) "Analog input channel", 5 SCLK (in) "Output serial clock. This terminal receives the serial SCLK from the host processor.", 6 VDD (power) "Positive supply voltage", 7 FS (in) "DSP frame sync input. Indication of the start of a serial data frame. Tie this terminal to VDD if not used.", 8 SDO (hiz) "The 3-state serial output for the A/D conversion result. SDO is kept in the high-impedance state until C\S\ falling edge or FS rising edge, whichever occurs first. The output format is MSB first. When FS is not used (FS = 1 (See Datasheet)"

## TLV2541IDGKR
designator U?
12-Bit, 200 kSPS ADC, Serial Out, TMS320 Compatible (up to 10 MHz), Single Channel, -40 to 85 degC, 8-pin SOP (DGK8), Green (RoHS & no Sb/Br); Manufacturer: Texas Instruments; PartNumber: TLV2541IDGKR; # Input Channels: 1; Analog Voltage AV/DD(Max)(V): 5.5; Analog Voltage AV/DD(Min)(V): 2.7; Architecture: SAR; ENOB(Bits): 11.8; Interface: Serial SPI; Resolution(Bits): 12; Sample Rate (max)(SPS): 200k; SFDR(dB): 84; SINAD(dB): 72; SubFamily: Precision ADC (<=10MSPS); DatasheetVersion: SLAS245E; PackageVersion: 4073329/E, 05/2006; PackageReference: DGK8; PackageDescription: 8-Pin Thin Small Outline, Body 3 x 3 mm, Pitch 0.65 mm; Supplier 1: Digi-Key; Supplier Part Number 1: 296-25170-2-ND; Digital Supply(Max)(V): 5.5; Digital Supply(Min)(V): 2.7; Eco-Plan: Green (RoHS & no Sb/Br); INL(Max)(+/-LSB): 1; Mounting Technology: Surface Mount; Code_JEDEC: MO-187; ComponentLink1Description: Manufacturer URL; ComponentLink1URL: http://www.ti.com/; ComponentLink2Description: Datasheet; ComponentLink2URL: http://www.ti.com/general/docs/lit/getliterature.tsp?genericPartNumber=TLV2541&fileType=pdf; ComponentLink3Description: Package Specification; ComponentLink3URL: http://www.ti.com/litv/pdf/mpds028d
footprint TI-DGK8_N (SOP, 8-Leads, Body 3x3mm, Pitch 0.65mm, IPC Medium Density)
footprint TI-DGK8_L (SOP, 8-Leads, Body 3x3mm, Pitch 0.65mm, IPC High Density)
footprint TI-DGK8_M (SOP, 8-Leads, Body 3x3mm, Pitch 0.65mm, IPC Low Density)
pins: 1 ~{CS} (in) "Chip select. A high-to-low transition on the C\S\ input removes SDO from 3-state within a maximum setup time. C\S\ can be used as the FS pin when a dedicated DSP serial port is used.", 2 VREF (in) "External reference input", 3 GND (power) "Ground return for the internal circuitry. Unless otherwise noted, all voltage measurements are with respect to GND.", 4 AIN (in) "Analog input channel", 5 SCLK (in) "Output serial clock. This terminal receives the serial SCLK from the host processor.", 6 VDD (power) "Positive supply voltage", 7 FS (in) "DSP frame sync input. Indication of the start of a serial data frame. Tie this terminal to VDD if not used.", 8 SDO (hiz) "The 3-state serial output for the A/D conversion result. SDO is kept in the high-impedance state until C\S\ falling edge or FS rising edge, whichever occurs first. The output format is MSB first. When FS is not used (FS = 1 (See Datasheet)"

## TLV2541IDGKRG4
designator U?
12-Bit, 200 kSPS ADC, Serial Out, TMS320 Compatible (up to 10 MHz), Single Channel, -40 to 85 degC, 8-pin SOP (DGK8), Green (RoHS & no Sb/Br); Manufacturer: Texas Instruments; PartNumber: TLV2541IDGKRG4; # Input Channels: 1; Analog Voltage AV/DD(Max)(V): 5.5; Analog Voltage AV/DD(Min)(V): 2.7; Architecture: SAR; ENOB(Bits): 11.8; Interface: Serial SPI; Resolution(Bits): 12; Sample Rate (max)(SPS): 200k; SFDR(dB): 84; SINAD(dB): 72; SubFamily: Precision ADC (<=10MSPS); DatasheetVersion: SLAS245E; PackageVersion: 4073329/E, 05/2006; PackageReference: DGK8; PackageDescription: 8-Pin Thin Small Outline, Body 3 x 3 mm, Pitch 0.65 mm; Supplier 1: Digi-Key; Supplier Part Number 1: 296-24974-ND; Digital Supply(Max)(V): 5.5; Digital Supply(Min)(V): 2.7; Eco-Plan: Green (RoHS & no Sb/Br); INL(Max)(+/-LSB): 1; Mounting Technology: Surface Mount; Code_JEDEC: MO-187; ComponentLink1Description: Manufacturer URL; ComponentLink1URL: http://www.ti.com/; ComponentLink2Description: Datasheet; ComponentLink2URL: http://www.ti.com/general/docs/lit/getliterature.tsp?genericPartNumber=TLV2541&fileType=pdf; ComponentLink3Description: Package Specification; ComponentLink3URL: http://www.ti.com/litv/pdf/mpds028d
footprint TI-DGK8_N (SOP, 8-Leads, Body 3x3mm, Pitch 0.65mm, IPC Medium Density)
footprint TI-DGK8_L (SOP, 8-Leads, Body 3x3mm, Pitch 0.65mm, IPC High Density)
footprint TI-DGK8_M (SOP, 8-Leads, Body 3x3mm, Pitch 0.65mm, IPC Low Density)
pins: 1 ~{CS} (in) "Chip select. A high-to-low transition on the C\S\ input removes SDO from 3-state within a maximum setup time. C\S\ can be used as the FS pin when a dedicated DSP serial port is used.", 2 VREF (in) "External reference input", 3 GND (power) "Ground return for the internal circuitry. Unless otherwise noted, all voltage measurements are with respect to GND.", 4 AIN (in) "Analog input channel", 5 SCLK (in) "Output serial clock. This terminal receives the serial SCLK from the host processor.", 6 VDD (power) "Positive supply voltage", 7 FS (in) "DSP frame sync input. Indication of the start of a serial data frame. Tie this terminal to VDD if not used.", 8 SDO (hiz) "The 3-state serial output for the A/D conversion result. SDO is kept in the high-impedance state until C\S\ falling edge or FS rising edge, whichever occurs first. The output format is MSB first. When FS is not used (FS = 1 (See Datasheet)"

## TLV2541IDR
designator U?
12-Bit, 200 kSPS ADC, Serial Out, TMS320 Compatible (up to 10 MHz), Single Channel, -40 to 85 degC, 8-pin SOIC (D8), Green (RoHS & no Sb/Br); Manufacturer: Texas Instruments; PartNumber: TLV2541IDR; # Input Channels: 1; Analog Voltage AV/DD(Max)(V): 5.5; Analog Voltage AV/DD(Min)(V): 2.7; Architecture: SAR; ENOB(Bits): 11.8; Interface: Serial SPI; Resolution(Bits): 12; Sample Rate (max)(SPS): 200K; SFDR(dB): 84; SINAD(dB): 72; SubFamily: Precision ADC (<=10MSPS); DatasheetVersion: SLAS245E; PackageVersion: 4040047-3/M, 06/2011; PackageReference: D8; PackageDescription: 8-Pin Plastic Small Outline, Body 4.9 x 3.9 mm, Pitch 1.27 mm; Supplier 1: Digi-Key; Supplier Part Number 1: ADS8558IPMR-ND; Digital Supply(Max)(V): 5.5; Digital Supply(Min)(V): 2.7; Eco-Plan: Green (RoHS & no Sb/Br); INL(Max)(+/-LSB): 1; Mounting Technology: Surface Mount; Code_JEDEC: MS-012; ComponentLink1Description: Manufacturer URL; ComponentLink1URL: http://www.ti.com/; ComponentLink2Description: Datasheet; ComponentLink2URL: http://www.ti.com/general/docs/lit/getliterature.tsp?genericPartNumber=TLV2541&fileType=pdf; ComponentLink3Description: Package Specification; ComponentLink3URL: http://www.ti.com/litv/pdf/msoi002j
footprint TI-D8_N (SOIC, 8-Leads, Body 4.9x3.9mm, Pitch 1.27mm, IPC Medium Density)
footprint TI-D8_L (SOIC, 8-Leads, Body 4.9x3.9mm, Pitch 1.27mm, IPC High Density)
footprint TI-D8_M (SOIC, 8-Leads, Body 4.9x3.9mm, Pitch 1.27mm, IPC Low Density)
pins: 1 ~{CS} (in) "Chip select. A high-to-low transition on the C\S\ input removes SDO from 3-state within a maximum setup time. C\S\ can be used as the FS pin when a dedicated DSP serial port is used.", 2 VREF (in) "External reference input", 3 GND (power) "Ground return for the internal circuitry. Unless otherwise noted, all voltage measurements are with respect to GND.", 4 AIN (in) "Analog input channel", 5 SCLK (in) "Output serial clock. This terminal receives the serial SCLK from the host processor.", 6 VDD (power) "Positive supply voltage", 7 FS (in) "DSP frame sync input. Indication of the start of a serial data frame. Tie this terminal to VDD if not used.", 8 SDO (hiz) "The 3-state serial output for the A/D conversion result. SDO is kept in the high-impedance state until C\S\ falling edge or FS rising edge, whichever occurs first. The output format is MSB first. When FS is not used (FS = 1 (See Datasheet)"

## TLV2541IDRG4
designator U?
12-Bit, 200 kSPS ADC, Serial Out, TMS320 Compatible (up to 10 MHz), Single Channel, -40 to 85 degC, 8-pin SOIC (D8), Green (RoHS & no Sb/Br); Manufacturer: Texas Instruments; PartNumber: TLV2541IDRG4; # Input Channels: 1; Analog Voltage AV/DD(Max)(V): 5.5; Analog Voltage AV/DD(Min)(V): 2.7; Architecture: SAR; ENOB(Bits): 11.8; Interface: Serial SPI; Resolution(Bits): 12; Sample Rate (max)(SPS): 200K; SFDR(dB): 84; SINAD(dB): 72; SubFamily: Precision ADC (<=10MSPS); DatasheetVersion: SLAS245E; PackageVersion: 4040047-3/M, 06/2011; PackageReference: D8; PackageDescription: 8-Pin Plastic Small Outline, Body 4.9 x 3.9 mm, Pitch 1.27 mm; Supplier 1: Digi-Key; Supplier Part Number 1: 296-24973-ND; Digital Supply(Max)(V): 5.5; Digital Supply(Min)(V): 2.7; Eco-Plan: Green (RoHS & no Sb/Br); INL(Max)(+/-LSB): 1; Mounting Technology: Surface Mount; Code_JEDEC: MS-012; ComponentLink1Description: Manufacturer URL; ComponentLink1URL: http://www.ti.com/; ComponentLink2Description: Datasheet; ComponentLink2URL: http://www.ti.com/general/docs/lit/getliterature.tsp?genericPartNumber=TLV2541&fileType=pdf; ComponentLink3Description: Package Specification; ComponentLink3URL: http://www.ti.com/litv/pdf/msoi002j
footprint TI-D8_N (SOIC, 8-Leads, Body 4.9x3.9mm, Pitch 1.27mm, IPC Medium Density)
footprint TI-D8_L (SOIC, 8-Leads, Body 4.9x3.9mm, Pitch 1.27mm, IPC High Density)
footprint TI-D8_M (SOIC, 8-Leads, Body 4.9x3.9mm, Pitch 1.27mm, IPC Low Density)
pins: 1 ~{CS} (in) "Chip select. A high-to-low transition on the C\S\ input removes SDO from 3-state within a maximum setup time. C\S\ can be used as the FS pin when a dedicated DSP serial port is used.", 2 VREF (in) "External reference input", 3 GND (power) "Ground return for the internal circuitry. Unless otherwise noted, all voltage measurements are with respect to GND.", 4 AIN (in) "Analog input channel", 5 SCLK (in) "Output serial clock. This terminal receives the serial SCLK from the host processor.", 6 VDD (power) "Positive supply voltage", 7 FS (in) "DSP frame sync input. Indication of the start of a serial data frame. Tie this terminal to VDD if not used.", 8 SDO (hiz) "The 3-state serial output for the A/D conversion result. SDO is kept in the high-impedance state until C\S\ falling edge or FS rising edge, whichever occurs first. The output format is MSB first. When FS is not used (FS = 1 (See Datasheet)"

## TLV2542CDGK
designator U?
12-Bit, 200 kSPS ADC, Serial Out, TMS320 Compatible (up to 10 MHz), Dual Channel Auto Sweep, 0 to 70 degC, 8-pin SOP (DGK8), Green (RoHS & no Sb/Br); Manufacturer: Texas Instruments; PartNumber: TLV2542CDGK; # Input Channels: 2; Analog Voltage AV/DD(Max)(V): 5.5; Analog Voltage AV/DD(Min)(V): 2.7; Architecture: SAR; ENOB(Bits): 11.8; INL(Max)(+/-LSB): 1; Interface: Serial SPI; Resolution(Bits): 12; Sample Rate (max)(SPS): 200k; SFDR(dB): 84; SINAD(dB): 72; SubFamily: Precision ADC (<=10MSPS); DatasheetVersion: SLAS245E; PackageVersion: 4073329/E, 05/2006; PackageReference: DGK8; PackageDescription: 8-Pin Thin Small Outline, Body 3 x 3 mm, Pitch 0.65 mm; Supplier 1: Digi-Key; Supplier Part Number 1: ADS8557IPMR-ND; Digital Supply(Max)(V): 5.5; Digital Supply(Min)(V): 2.7; Eco-Plan: Green (RoHS & no Sb/Br); Mounting Technology: Surface Mount; Code_JEDEC: MO-187; ComponentLink1Description: Manufacturer URL; ComponentLink1URL: http://www.ti.com/; ComponentLink2Description: Datasheet; ComponentLink2URL: http://www.ti.com/general/docs/lit/getliterature.tsp?genericPartNumber=TLV2542&fileType=pdf; ComponentLink3Description: Package Specification; ComponentLink3URL: http://www.ti.com/litv/pdf/mpds028d
footprint TI-DGK8_N (SOP, 8-Leads, Body 3x3mm, Pitch 0.65mm, IPC Medium Density)
footprint TI-DGK8_L (SOP, 8-Leads, Body 3x3mm, Pitch 0.65mm, IPC High Density)
footprint TI-DGK8_M (SOP, 8-Leads, Body 3x3mm, Pitch 0.65mm, IPC Low Density)
pins: 1 ~{CS} (in) "Chip select. A high-to-low transition on C\S\ removes SDO from 3-state within a maximum delay time. This pin can be connected to the FS output from a DSP on a dedicated serial port.", 2 VREF (in) "External reference input", 3 GND (power) "Ground return for the internal circuitry. Unless otherwise noted, all voltage measurements are with respect to GND.", 4 AIN0 (in) "Analog input channel 0", 5 AIN1 (in) "Analog input channel 1", 6 VDD (power) "Positive supply voltage", 7 SCLK (in) "Output serial clock. This terminal receives the serial SCLK from the host processor.", 8 SDO (hiz) "The 3-state serial output for the A/D conversion result. SDO is kept in the high-impedance state when C\S\ is high and presents output data after the C\S\ falling edge until the LSB is presented. The output format is MSB (See Datasheet)"